# Altium footprint library Manu.PcbLib: 82 footprints (part 5 of 6)
Each footprint in its own frame and in the unit in brackets; x right, y up, seen from the top. Pads: shape width x height; smd on the part's side, far side on the other; paste and mask are expansions set on the pad; w line width, h text height; cw(c..) or ccw(c..) is an arc to the next point about the centre after c.
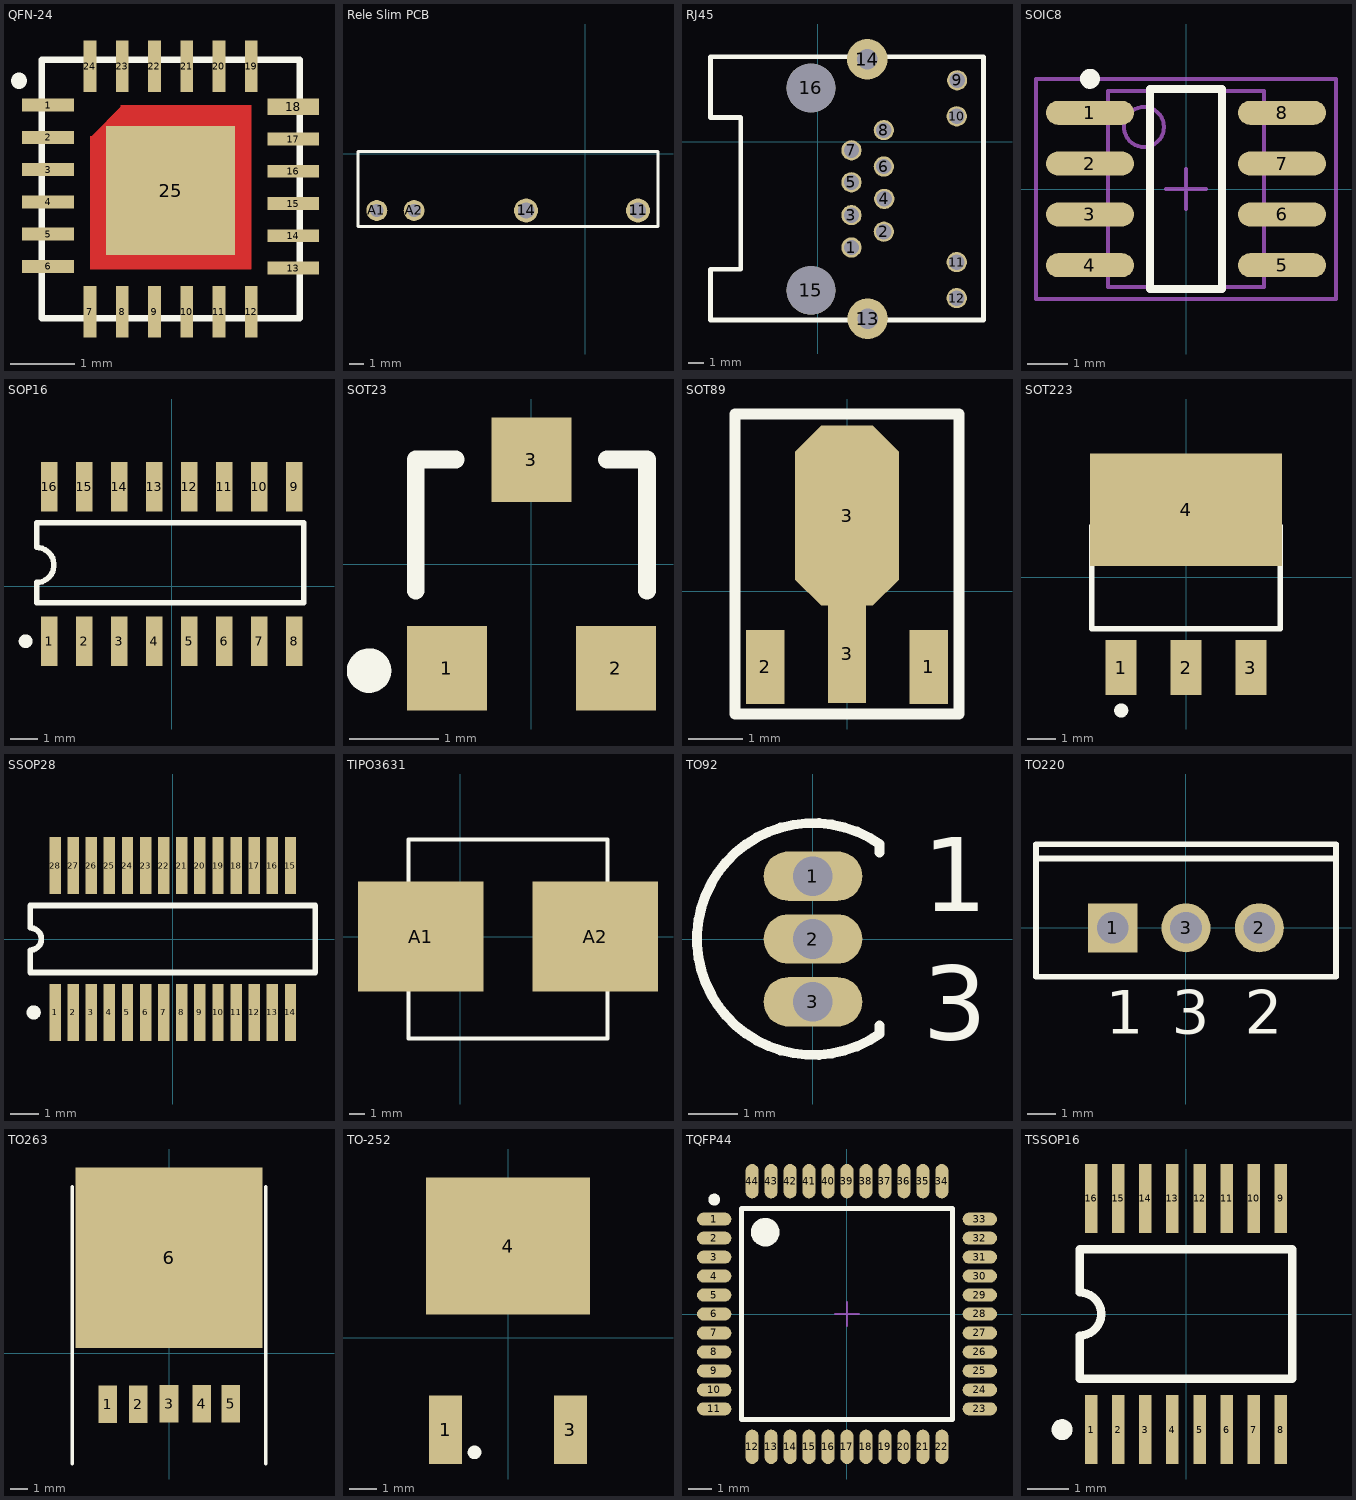
[diagram p4: the footprints below, top view; thin cyan lines are the x and y axes]

## QFN-24 [mm]
pads (26):
  rect 0.8x0.2 smd: 1(-5.9,5.5) 2(-5.9,5) 3(-5.9,4.5) 4(-5.9,4) 5(-5.9,3.5) 6(-5.9,3) 13(-2.1,2.975) 14(-2.1,3.475) 15(-2.1,3.975) 16(-2.1,4.475) 17(-2.1,4.975)
  rect 0.2x0.8 smd: 7(-5.25,2.3) 8(-4.75,2.3) 9(-4.25,2.3) 10(-3.75,2.3) 11(-3.25,2.3) 12(-2.75,2.3) 19(-2.75,6.1) 20(-3.25,6.1) 21(-3.75,6.1) 22(-4.25,6.1) 23(-4.75,6.1) 24(-5.25,6.1)
  rect 0.4x0.2 on Top Paste: 12(-2.3,5.2)
  rect 0.8x0.25 smd: 18(-2.1,5.475)
  rect 2x2 smd: 25(-4,4.175)
Top Layer:
  rectangle: -5.25,2.95 -2.75,5.025
  rectangle: -4.775,5 -2.75,5.5
  region: -5,4.775 -4.512,5.263 -4.75,5.5 -5.238,5.013
Top Overlay:
  circle w0.254: c-6.35,5.875 r0
  lines w0.1: -6,2.2 -2,2.2 -2,6.2 -6,6.2 -6,2.2

## Rele Slim PCB [mm] "Rele Slim PCB PCN-105D3MHZ de Tyco"
pads (4):
  round 1.6 hole 1.1: 11(3.53,-3.81) 14(-3.97,-3.81)
  round 1.4 hole 0.9: A1(-13.97,-3.81) A2(-11.47,-3.81)
Top Layer:
  lines w0.254: -3.97,-3.81 -3.97,-3.81
Top Overlay:
  lines w0.2: -15.23,-4.88 -15.23,0.14 4.87,0.14 4.87,-4.88 -15.23,-4.88

## RJ45 [mil] "RJ45"
height 1.61
pads (16):
  round 50 hole 38: 1(82.83,-261.56) 2(162.83,-222.56) 3(82.83,-181.56) 4(163.83,-141.56) 5(82.83,-100.56) 6(162.83,-61.56) 7(82.83,-21.56) 8(162.83,28.44) 9(343.83,151.44) 10(342.83,62.44) 11(342.83,-297.56) 12(342.83,-386.56)
  round 100 hole 50: 13(122.83,-437.56) 14(121.85,203.43)
  round 120 hole 120 unplated: 15(-17.17,-367.56) 16(-17.17,132.44)
Top Overlay:
  lines w12: -265.67,-440.31 -265.67,-315.31 -190.67,-315.31 -190.67,59.69 -265.67,59.69 -265.67,134.69 -265.67,209.69 409.33,209.69 409.33,-440.31 -265.67,-440.31

## SOIC8 [mm] "SOIC, 8-Leads, Body 4.9x3.9mm, Pitch 1.27mm, IPC Medium Density"
height 1.75
pads (8):
  oval 2.2x0.6 smd: 1(-2.4,1.905) 2(-2.4,0.635) 3(-2.4,-0.635) 4(-2.4,-1.905) 5(2.4,-1.905) 6(2.4,-0.635) 7(2.4,0.635) 8(2.4,1.905)
Top Overlay:
  circle w0.25: c-2.4,2.755 r0.125
  lines w0.2: -0.9,-2.5 0.9,-2.5 0.9,2.5 -0.9,2.5 -0.9,-2.5
Mechanical 13:
  circle w0.1: c-1.05,1.55 r0.5
  lines w0.1: -1.95,-2.45 1.95,-2.45 1.95,2.45 -1.95,2.45 -1.95,-2.45
Mechanical 15:
  lines w0.1: -0.5,0 0.5,0 ; 0,-0.5 0,0.5 ; -3.75,-2.75 3.75,-2.75 3.75,2.75 -3.75,2.75 -3.75,-2.75
3D body: height 1.75, standoff 0, extent -1.95,-2.45 1.95,2.45

## SOP16 [mm] "Small Outline; 16 Leads; Body Width 5.6 mm; Pitch 1.27 mm"
height 2
pads (16):
  rect 0.6x1.8 smd: 1(-4.445,-2) 2(-3.175,-2) 3(-1.905,-2) 4(-0.635,-2) 5(0.635,-2) 6(1.905,-2) 7(3.175,-2) 8(4.445,-2) 9(4.445,3.6) 10(3.175,3.6) 11(1.905,3.6) 12(0.635,3.6) 13(-0.635,3.6) 14(-1.905,3.6) 15(-3.175,3.6) 16(-4.445,3.6)
Top Overlay:
  circle w0.25: c-5.295,-2 r0.125
  lines w0.2: -4.9,0.1 -4.9,-0.6 ; -4.9,0.13 ccw(c-4.9,0.765) -4.9,1.4 ; -4.9,1.435 -4.9,2.3 4.8,2.3 4.8,-0.6 -4.9,-0.6 ; -4.9,-0.6 -4.9,-0.6

## SOT23 [mm] "SOT-23; 3 Leads; Body 3.1 x 2.5 mm, inc. leads (LxW max), Alternate Lead Configuration"
height 1.1
pads (3):
  rect 0.9x0.95 smd: 1(-0.95,-1.175) 2(0.95,-1.175) 3(0,1.175)
Top Overlay:
  circle w0.25: c-1.825,-1.2 r0.125
  lines w0.2: -1.3,-0.3 -1.3,1.175 -0.85,1.175 ; 0.85,1.175 1.3,1.175 1.3,-0.3

## SOT89 [mm] "SOT-89; Body 4.6 x 4.25 mm, inc. leads (LxW max)"
height 1.6
pads (4):
  rect 0.7x1.35 smd: 1(1.5,-1.388) 2(-1.5,-1.388)
  rect 0.7x1.8 smd: 3(0,-1.15)
  oct 1.9x3.3 smd: 3(0,1.388)
Top Overlay:
  lines w0.2: -2.05,-2.25 -2.05,3.25 2.05,3.25 2.05,-2.25 -2.05,-2.25

## SOT223 [mm] "SOT-223/SC-73; 4 Leads; Body 6.7 x 7.3 mm, inc. leads (LxW max)"
height 1.8
pads (4):
  rect 1.1x1.95 smd: 1(-2.3,-3.2) 2(0,-3.2) 3(2.3,-3.2)
  rect 6.8x4 smd: 4(0,2.4)
Top Overlay:
  circle w0.25: c-2.3,-4.725 r0.125
  lines w0.2: -3.35,-1.825 -3.35,1.825 3.35,1.825 3.35,-1.825 -3.35,-1.825

## SSOP28 [mm] "SSOP; 28 Leads; Body Width 3.9 mm; Pitch 0.635 mm"
height 1.75
pads (28):
  rect 0.4x2 smd: 1(-4.127,-2.575) 2(-3.492,-2.575) 3(-2.857,-2.575) 4(-2.222,-2.575) 5(-1.587,-2.575) 6(-0.953,-2.575) 7(-0.318,-2.575) 8(0.318,-2.575) 9(0.953,-2.575) 10(1.587,-2.575) 11(2.222,-2.575) 12(2.857,-2.575) 13(3.492,-2.575) 14(4.127,-2.575) 15(4.127,2.575) 16(3.492,2.575) 17(2.857,2.575) 18(2.222,2.575) 19(1.587,2.575) 20(0.953,2.575) 21(0.318,2.575) 22(-0.318,2.575) 23(-0.953,2.575) 24(-1.587,2.575) 25(-2.222,2.575) 26(-2.857,2.575) 27(-3.492,2.575) 28(-4.127,2.575)
Top Overlay:
  circle w0.25: c-4.878,-2.575 r0.125
  lines w0.2: -5,-1.175 5,-1.175 5,1.175 -5,1.175 -5,0.392 cw(c-5,0) -5,-0.392 -5,-1.175

## TIPO3631 [mm] "Footprint para inductor 33uH"
pads (2):
  rect 8x7 smd: A1(-2.5,0) A2(8.6,0)
Top Overlay:
  lines w0.254: -3.3,-6.5 -3.3,6.2 9.4,6.2 9.4,-6.5 -3.3,-6.5

## TO92 [mm] "TO, Flat Index; 3 In-Line, Axial Leads; Body Dia. 4.6mm; Leads 0.53 x 0.39 mm (max)"
pads (3):
  oval 2x1 hole 0.8: 1(0,1.27) 2(0,0) 3(0,-1.27)
Top Overlay:
  lines w0.2: 1.35,-1.75 1.35,-1.92 cw(c0,0) 1.35,1.92 1.35,1.75
  text "3" at 2.224,-2.035 h1.5
  text "1" at 2.224,0.56 h1.5

## TO220 [mm] "TO, Thru-Hole, Vertical, Heatsink Mounted; 3 In-Line Leads; Pitch 2.54 mm; Pin sequence 1, 3, 2"
height 19.4
pads (3):
  rect 1.7x1.7 hole 1.1: 1(-2.54,0)
  round 1.7 hole 1.1: 2(2.54,0) 3(0,0)
Top Overlay:
  lines w0.2: -5.2,2.4 5.2,2.4 ; -5.2,-1.7 -5.2,2.9 5.2,2.9 5.2,-1.7 -5.2,-1.7
  text "1" at -2.79,-3.675 h1.5
  text "2" at 2.04,-3.675 h1.5
  text "3" at -0.5,-3.675 h1.5

## TO263 [mil] "5 lead TO-263"
height 184.65
pads (6):
  rect 42x85 smd: 1(-138.78,-116.14) 2(-70,-116.14) 3(0,-115) 4(73.82,-115.16) 5(140,-115)
  rect 425x410 smd: 6(0,216.53)
Top Overlay:
  lines w7.87: -219.49,-251.97 -219.49,377.95 ; 219.49,-251.97 219.49,377.95

## TO-252 [mm] "D-PAK/TO-252-AA; 3 Leads (1 Cropped); Body 10.1 (inc. leads) x 6.6 mm (LxW max)"
height 2.4
pads (3):
  rect 1.2x2.5 smd: 1(-2.285,-3.375) 3(2.285,-3.375)
  rect 6x5 smd: 4(0,3.35)
Top Overlay:
  circle w0.25: c-1.225,-4.2 r0.125

## TQFP44 [mm] "Thin QFP, 44-Leads, Body 10x10mm, Pitch 0.8mm, IPC High Density"
height 1.2
pads (44):
  oval 1.45x0.55 smd: 1(-5.6,4) 2(-5.6,3.2) 3(-5.6,2.4) 4(-5.6,1.6) 5(-5.6,0.8) 6(-5.6,0) 7(-5.6,-0.8) 8(-5.6,-1.6) 9(-5.6,-2.4) 10(-5.6,-3.2) 11(-5.6,-4) 23(5.6,-4) 24(5.6,-3.2) 25(5.6,-2.4) 26(5.6,-1.6) 27(5.6,-0.8) 28(5.6,0) 29(5.6,0.8) 30(5.6,1.6) 31(5.6,2.4) 32(5.6,3.2) 33(5.6,4)
  oval 0.55x1.45 smd: 12(-4,-5.6) 13(-3.2,-5.6) 14(-2.4,-5.6) 15(-1.6,-5.6) 16(-0.8,-5.6) 17(0,-5.6) 18(0.8,-5.6) 19(1.6,-5.6) 20(2.4,-5.6) 21(3.2,-5.6) 22(4,-5.6) 34(4,5.6) 35(3.2,5.6) 36(2.4,5.6) 37(1.6,5.6) 38(0.8,5.6) 39(0,5.6) 40(-0.8,5.6) 41(-1.6,5.6) 42(-2.4,5.6) 43(-3.2,5.6) 44(-4,5.6)
Top Overlay:
  circle w0.6: c-3.45,3.45 r0.3
  circle w0.25: c-5.6,4.825 r0.125
  lines w0.2: -4.45,-4.45 4.45,-4.45 4.45,4.45 -4.45,4.45 -4.45,-4.45
Mechanical 15:
  lines w0.1: -0.5,0 0.5,0 ; 0,-0.5 0,0.5

## TSSOP16 [mm] "Shrink Small Outline; 16 Leads; Body Width 4.4 mm; Pitch 0.65 mm"
height 1.2
pads (16):
  rect 0.3x1.65 smd: 1(-2.275,-2.775) 2(-1.625,-2.775) 3(-0.975,-2.775) 4(-0.325,-2.775) 5(0.325,-2.775) 6(0.975,-2.775) 7(1.625,-2.775) 8(2.275,-2.775) 9(2.275,2.775) 10(1.625,2.775) 11(0.975,2.775) 12(0.325,2.775) 13(-0.325,2.775) 14(-0.975,2.775) 15(-1.625,2.775) 16(-2.275,2.775)
Top Overlay:
  circle w0.25: c-2.975,-2.775 r0.125
  lines w0.2: -2.55,-1.55 -2.55,-0.517 ccw(c-2.55,0) -2.55,0.517 -2.55,1.55 2.55,1.55 2.55,-1.55 -2.55,-1.55